# Altium integrated library Silicon Labs Clocks and Oscillators.IntLib: 678 symbols (part 9 of 45)
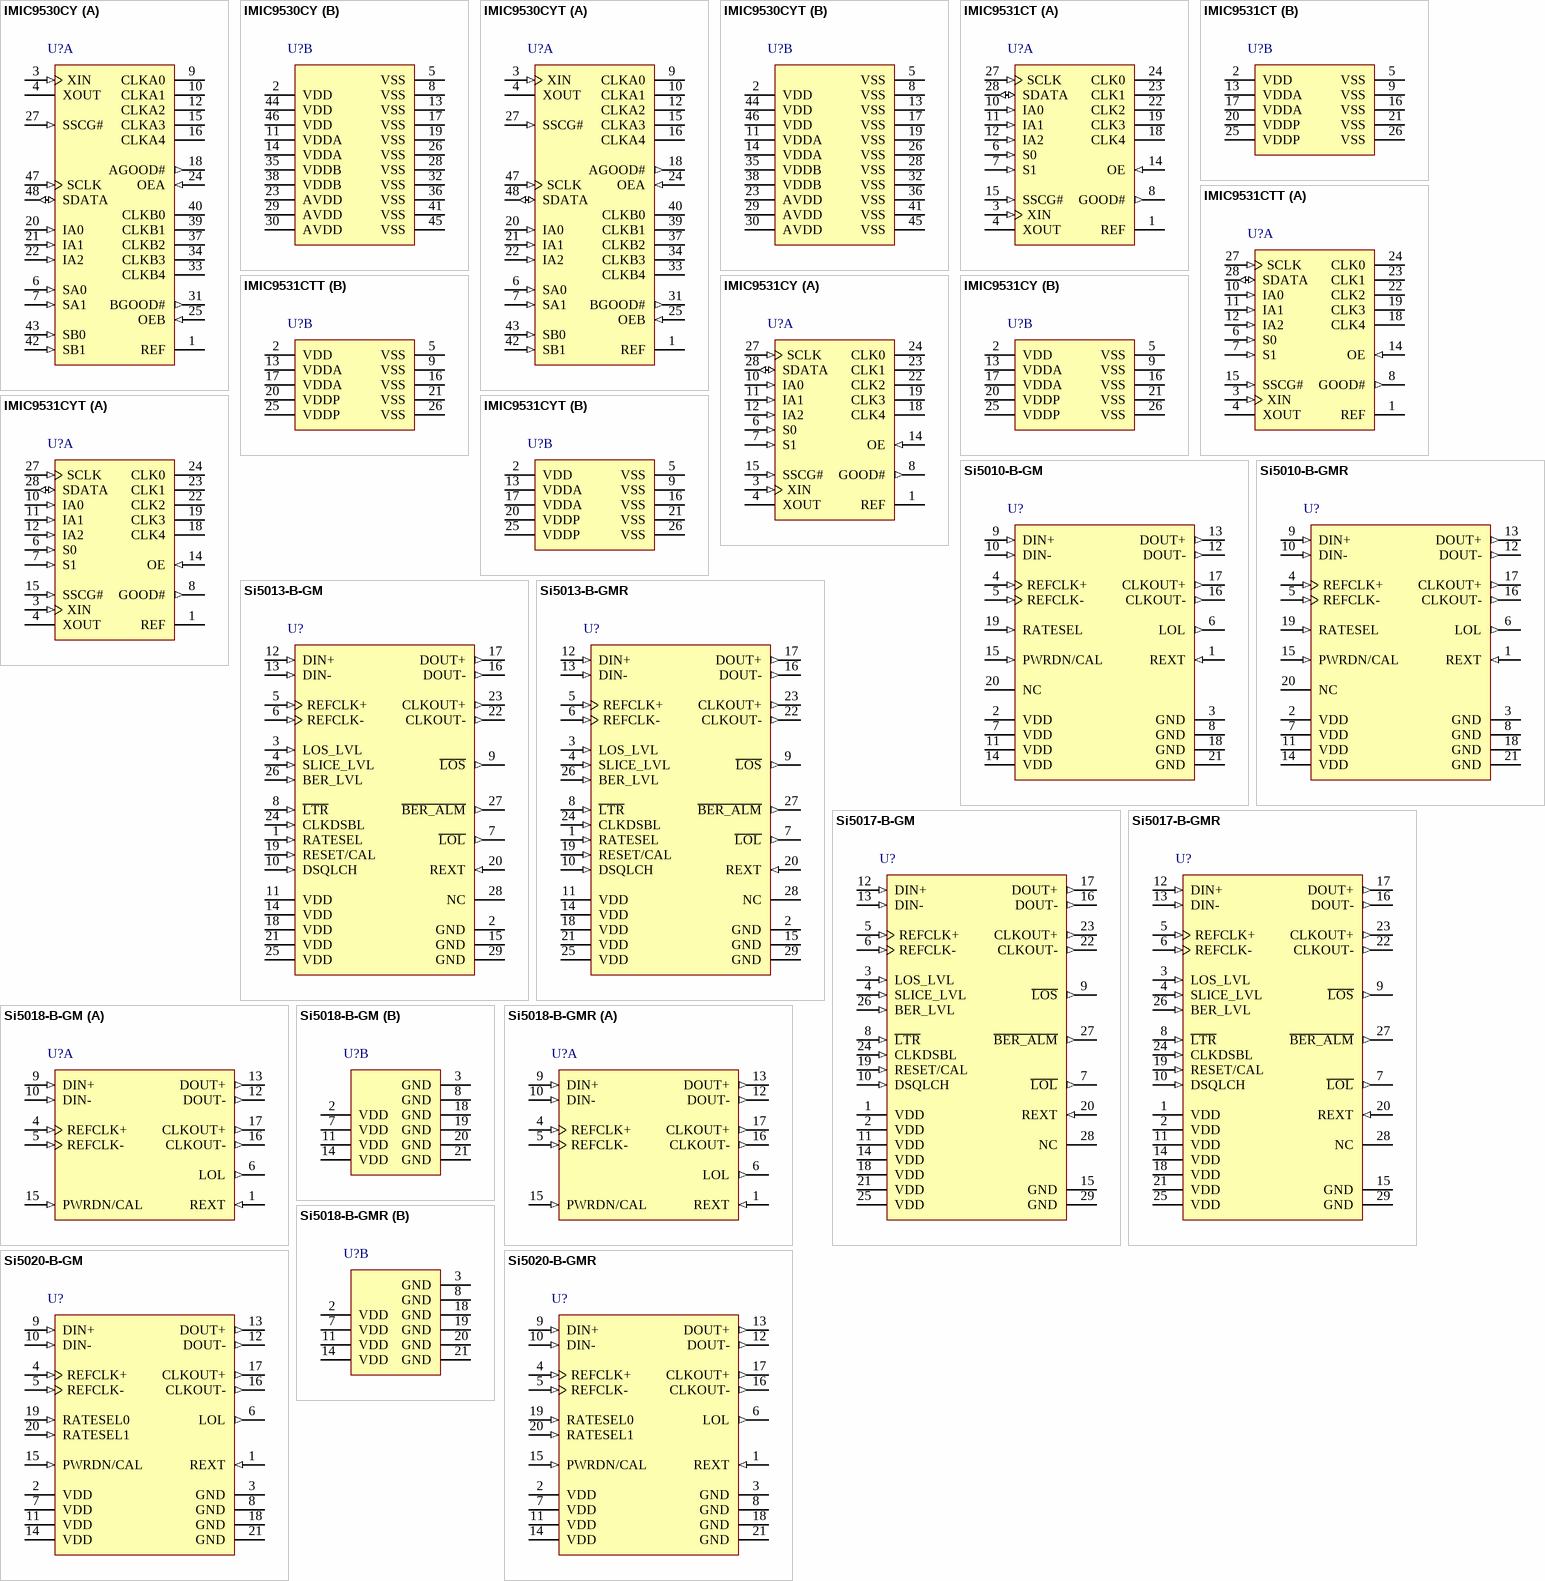
[diagram p52: symbols IMIC9530CY to Si5020-B-GMR]

## Si5010-B-GM
designator U?
OC-12 / 3, STM-4 / 1 SONET / SDH Clock and Data Recovery IC, 2.5 V, -40 to 85 degC, 20-pin QFN; Manufacturer: Silicon Labs; PartNumber: Si5010-B-GM; Data Rates: OC-3/12, (2.5 V); Sub-Family: CDR/PHYs; DatasheetVersion: Rev. 1.4; PackageReference: QFN-20; PackageDescription: 20-Pin Quad-Flat No-Leads Package, Body 4 x 4 mm, Pitch 0.5 mm; Supplier 1: Digi-Key; Supplier Part Number 1: 336-1743-5-ND; Supplier 2: Mouser; Supplier Part Number 2: 634-SI5010-B-GM; Mounting Technology: Surface Mount; Code_JEDEC: MO-220; ComponentLink1Description: Manufacturer URL; ComponentLink1URL: http://www.silabs.com/; ComponentLink2Description: Datasheet; ComponentLink2URL: http://www.silabs.com/Support Documents/TechnicalDocs/si5010.pdf; ComponentLink3Description: Package Specification; ComponentLink3URL: http://www.silabs.com/Support%20Documents/TechnicalDocs/si5010.pdf
footprint SLAB-QFN-20-2100x2100TP_A_N (QFN, 20-Leads, Body 4x4mm, Pitch 0.5mm, Thermal Pad 2.1X2.1mm, IPC Medium Density)
footprint SLAB-QFN-20-2100x2100TP_A_L (QFN, 20-Leads, Body 4x4mm, Pitch 0.5mm, Thermal Pad 2.1X2.1mm, IPC High Density)
footprint SLAB-QFN-20-2100x2100TP_A_M (QFN, 20-Leads, Body 4x4mm, Pitch 0.5mm, Thermal Pad 2.1X2.1mm, IPC Low Density)
pins: 1 REXT (in) "External Bias Resistor.", 2 VDD (power) "Supply Voltage.", 3 GND (power) "Supply Ground.", 4 REFCLK+ (in) "Differential Reference Clock.", 5 REFCLK- (in) "Differential Reference Clock.", 6 LOL (out) "Loss-of-Lock.", 7 VDD (power) "Supply Voltage.", 8 GND (power) "Supply Ground.", 9 DIN+ (in) "Differential Data Input", 10 DIN- (in) "Differential Data Input", 11 VDD (power) "Supply Voltage.", 12 DOUT- (out) "Differential Data Output.", 13 DOUT+ (out) "Differential Data Output.", 14 VDD (power) "Supply Voltage.", 15 PWRDN/CAL (in) "Powerdown.Calibration", 16 CLKOUT- (out) "Differential Clock Output.", 17 CLKOUT+ (out) "Differential Clock Output.", 18 GND (power) "Supply Ground.", 19 RATESEL (in) "Data Rate Select.", 20 NC "No Connect.", 21 GND (power) "Supply Ground."

## Si5010-B-GMR
designator U?
OC-12 / 3, STM-4 / 1 SONET / SDH Clock and Data Recovery IC, 2.5 V, -40 to 85 degC, 20-pin QFN, Tape and Reel; Manufacturer: Silicon Labs; PartNumber: Si5010-B-GMR; Data Rates: OC-3/12, (2.5 V); Sub-Family: CDR/PHYs; DatasheetVersion: Rev. 1.4; PackageReference: QFN-20; PackageDescription: 20-Pin Quad-Flat No-Leads Package, Body 4 x 4 mm, Pitch 0.5 mm; Supplier 1: Digi-Key; Supplier Part Number 1: SI5010-B-GMR-ND; Supplier 2: Mouser; Supplier Part Number 2: 634-SI5010-B-GMR; Packing: Tape and Reel; Mounting Technology: Surface Mount; Code_JEDEC: MO-220; ComponentLink1Description: Manufacturer URL; ComponentLink1URL: http://www.silabs.com/; ComponentLink2Description: Datasheet; ComponentLink2URL: http://www.silabs.com/Support Documents/TechnicalDocs/si5010.pdf; ComponentLink3Description: Package Specification; ComponentLink3URL: http://www.silabs.com/Support%20Documents/TechnicalDocs/si5010.pdf
footprint SLAB-QFN-20-2100x2100TP_A_N (QFN, 20-Leads, Body 4x4mm, Pitch 0.5mm, Thermal Pad 2.1X2.1mm, IPC Medium Density)
footprint SLAB-QFN-20-2100x2100TP_A_L (QFN, 20-Leads, Body 4x4mm, Pitch 0.5mm, Thermal Pad 2.1X2.1mm, IPC High Density)
footprint SLAB-QFN-20-2100x2100TP_A_M (QFN, 20-Leads, Body 4x4mm, Pitch 0.5mm, Thermal Pad 2.1X2.1mm, IPC Low Density)
pins: 1 REXT (in) "External Bias Resistor.", 2 VDD (power) "Supply Voltage.", 3 GND (power) "Supply Ground.", 4 REFCLK+ (in) "Differential Reference Clock.", 5 REFCLK- (in) "Differential Reference Clock.", 6 LOL (out) "Loss-of-Lock.", 7 VDD (power) "Supply Voltage.", 8 GND (power) "Supply Ground.", 9 DIN+ (in) "Differential Data Input", 10 DIN- (in) "Differential Data Input", 11 VDD (power) "Supply Voltage.", 12 DOUT- (out) "Differential Data Output.", 13 DOUT+ (out) "Differential Data Output.", 14 VDD (power) "Supply Voltage.", 15 PWRDN/CAL (in) "Powerdown.Calibration", 16 CLKOUT- (out) "Differential Clock Output.", 17 CLKOUT+ (out) "Differential Clock Output.", 18 GND (power) "Supply Ground.", 19 RATESEL (in) "Data Rate Select.", 20 NC "No Connect.", 21 GND (power) "Supply Ground."

## Si5013-B-GM
designator U?
OC-12 / 3, STM-4 / 1 SONET / SDH CDR IC with Limiting Amplifier, 3.3 V, -40 to 85 degC, 28-pin QFN; Manufacturer: Silicon Labs; PartNumber: Si5013-B-GM; Data Rates: OC-3/12, (3.3 V); Sub-Family: CDR/PHYs; DatasheetVersion: Rev. 1.6; PackageReference: QFN-28; PackageDescription: 28-Pin Quad-Flat No-Leads Package, Body 5 x 5 mm, Pitch 0.5 mm; Mounting Technology: Surface Mount; Code_JEDEC: MO-220; Code_IPC: J-STD-020C; ComponentLink1Description: Manufacturer URL; ComponentLink1URL: http://www.silabs.com/; ComponentLink2Description: Datasheet; ComponentLink2URL: http://www.silabs.com/Support Documents/TechnicalDocs/si5013.pdf; ComponentLink3Description: Package Specification; ComponentLink3URL: http://www.silabs.com/Support%20Documents/TechnicalDocs/si5013.pdf
footprint SLAB-QFN-28-3100x3100TP_N (QFN, 28-Leads, Body 5x5mm, Pitch 0.5mm, Thermal Pad 3.1x3.1mm, IPC Medium Density)
footprint SLAB-QFN-28-3100x3100TP_L (QFN, 28-Leads, Body 5x5mm, Pitch 0.5mm, Thermal Pad 3.1x3.1mm, IPC High Density)
footprint SLAB-QFN-28-3100x3100TP_M (QFN, 28-Leads, Body 5x5mm, Pitch 0.5mm, Thermal Pad 3.1x3.1mm, IPC Low Density)
pins: 1 RATESEL (in) "Data Rate Select.", 2 GND (power) "Supply Ground.", 3 LOS_LVL (in) "LOS Level Control.", 4 SLICE_LVL (in) "Slicing Level Control", 5 REFCLK+ (in) "Differential Reference Clock (Optional).", 6 REFCLK- (in) "Differential Reference Clock (Optional).", 7 ~{LOL} (out) "Loss-of-Lock.", 8 ~{LTR} (in) "Lock-to-Reference.", 9 ~{LOS} (out) "Loss-of-Signal.", 10 DSQLCH (in) "Data Squelch.", 11 VDD (power) "Supply Voltage.", 12 DIN+ (in) "Differential Data Input.", 13 DIN- (in) "Differential Data Input.", 14 VDD (power) "Supply Voltage.", 15 GND (power) "Production Test Input.", 16 DOUT- (out) "Differential Data Output.", 17 DOUT+ (out) "Differential Data Output.", 18 VDD (power) "Supply Voltage.", 19 RESET/CAL (in) "Reset/Calibrate.", 20 REXT (in) "External Bias Resistor.", 21 VDD (power) "Supply Voltage.", 22 CLKOUT- (out) "Differential Clock Output.", 23 CLKOUT+ (out) "Differential Clock Output.", 24 CLKDSBL (in) "Clock Disable.", 25 VDD (power) "Supply Voltage.", 26 BER_LVL (in) "Bit Error Rate Level Control.", 27 ~{BER_ALM} (out) "Bit Error Rate Alarm.", 28 NC "No Connect", 29 GND (power) "Supply Ground."

## Si5013-B-GMR
designator U?
OC-12 / 3, STM-4 / 1 SONET / SDH CDR IC with Limiting Amplifier, 3.3 V, -40 to 85 degC, 28-pin QFN, Tape and Reel; Manufacturer: Silicon Labs; PartNumber: Si5013-B-GMR; Data Rates: OC-3/12, (3.3 V); Sub-Family: CDR/PHYs; DatasheetVersion: Rev. 1.6; PackageReference: QFN-28; PackageDescription: 28-Pin Quad-Flat No-Leads Package, Body 5 x 5 mm, Pitch 0.5 mm; Packing: Tape and Reel; Mounting Technology: Surface Mount; Code_JEDEC: MO-220; Code_IPC: J-STD-020C; ComponentLink1Description: Manufacturer URL; ComponentLink1URL: http://www.silabs.com/; ComponentLink2Description: Datasheet; ComponentLink2URL: http://www.silabs.com/Support Documents/TechnicalDocs/si5013.pdf; ComponentLink3Description: Package Specification; ComponentLink3URL: http://www.silabs.com/Support%20Documents/TechnicalDocs/si5013.pdf
footprint SLAB-QFN-28-3100x3100TP_N (QFN, 28-Leads, Body 5x5mm, Pitch 0.5mm, Thermal Pad 3.1x3.1mm, IPC Medium Density)
footprint SLAB-QFN-28-3100x3100TP_L (QFN, 28-Leads, Body 5x5mm, Pitch 0.5mm, Thermal Pad 3.1x3.1mm, IPC High Density)
footprint SLAB-QFN-28-3100x3100TP_M (QFN, 28-Leads, Body 5x5mm, Pitch 0.5mm, Thermal Pad 3.1x3.1mm, IPC Low Density)
pins: 1 RATESEL (in) "Data Rate Select.", 2 GND (power) "Supply Ground.", 3 LOS_LVL (in) "LOS Level Control.", 4 SLICE_LVL (in) "Slicing Level Control", 5 REFCLK+ (in) "Differential Reference Clock (Optional).", 6 REFCLK- (in) "Differential Reference Clock (Optional).", 7 ~{LOL} (out) "Loss-of-Lock.", 8 ~{LTR} (in) "Lock-to-Reference.", 9 ~{LOS} (out) "Loss-of-Signal.", 10 DSQLCH (in) "Data Squelch.", 11 VDD (power) "Supply Voltage.", 12 DIN+ (in) "Differential Data Input.", 13 DIN- (in) "Differential Data Input.", 14 VDD (power) "Supply Voltage.", 15 GND (power) "Production Test Input.", 16 DOUT- (out) "Differential Data Output.", 17 DOUT+ (out) "Differential Data Output.", 18 VDD (power) "Supply Voltage.", 19 RESET/CAL (in) "Reset/Calibrate.", 20 REXT (in) "External Bias Resistor.", 21 VDD (power) "Supply Voltage.", 22 CLKOUT- (out) "Differential Clock Output.", 23 CLKOUT+ (out) "Differential Clock Output.", 24 CLKDSBL (in) "Clock Disable.", 25 VDD (power) "Supply Voltage.", 26 BER_LVL (in) "Bit Error Rate Level Control.", 27 ~{BER_ALM} (out) "Bit Error Rate Alarm.", 28 NC "No Connect", 29 GND (power) "Supply Ground."

## Si5017-B-GM
designator U?
OC-48 / STM-16 SONET / SDH CDR IC with Limiting Amplifier, 3.3 V, -40 to 85 degC, 28-pin QFN; Manufacturer: Silicon Labs; PartNumber: Si5017-B-GM; Data Rates: OC-48, 2.7 Gbps FEC (3.3 V); Sub-Family: CDR/PHYs; DatasheetVersion: Rev. 1.5; PackageReference: QFN-28; PackageDescription: 28-Pin Quad-Flat No-Leads Package, Body 5 x 5 mm, Pitch 0.5 mm; Mounting Technology: Surface Mount; Code_JEDEC: MO-220; Code_IPC: J-STD-020C; ComponentLink1Description: Manufacturer URL; ComponentLink1URL: http://www.silabs.com/; ComponentLink2Description: Datasheet; ComponentLink2URL: http://www.silabs.com/Support Documents/TechnicalDocs/si5017.pdf; ComponentLink3Description: Package Specification; ComponentLink3URL: http://www.silabs.com/Support%20Documents/TechnicalDocs/si5013.pdf
footprint SLAB-QFN-28-3100x3100TP_N (QFN, 28-Leads, Body 5x5mm, Pitch 0.5mm, Thermal Pad 3.1x3.1mm, IPC Medium Density)
footprint SLAB-QFN-28-3100x3100TP_L (QFN, 28-Leads, Body 5x5mm, Pitch 0.5mm, Thermal Pad 3.1x3.1mm, IPC High Density)
footprint SLAB-QFN-28-3100x3100TP_M (QFN, 28-Leads, Body 5x5mm, Pitch 0.5mm, Thermal Pad 3.1x3.1mm, IPC Low Density)
pins: 1 VDD (power) "Supply Voltage.", 2 VDD (power) "Supply Voltage.", 3 LOS_LVL (in) "LOS Level Control.", 4 SLICE_LVL (in) "Slicing Level Control.", 5 REFCLK+ (in) "Differential Reference Clock (Optional).", 6 REFCLK- (in) "Differential Reference Clock (Optional).", 7 ~{LOL} (out) "Loss-of-Lock.", 8 ~{LTR} (in) "Lock-to-Reference.", 9 ~{LOS} (out) "Loss-of-Signal.", 10 DSQLCH (in) "Data Squelch.", 11 VDD (power) "Supply Voltage.", 12 DIN+ (in) "Differential Data Input.", 13 DIN- (in) "Differential Data Input.", 14 VDD (power) "Supply Voltage.", 15 GND (power) "Production Test Input.", 16 DOUT- (out) "Differential Data Output.", 17 DOUT+ (out) "Differential Data Output.", 18 VDD (power) "Supply Voltage.", 19 RESET/CAL (in) "Reset/Calibrate.", 20 REXT (in) "External Bias Resistor.", 21 VDD (power) "Supply Voltage.", 22 CLKOUT- (out) "Differential Clock Output.", 23 CLKOUT+ (out) "Differential Clock Output.", 24 CLKDSBL (in) "Clock Disable.", 25 VDD (power) "Supply Voltage.", 26 BER_LVL (in) "Bit Error Rate Level Control.", 27 ~{BER_ALM} (out) "Bit Error Rate Alarm.", 28 NC "No Connect.", 29 GND (power) "Supply Ground"

## Si5017-B-GMR
designator U?
OC-48 / STM-16 SONET / SDH CDR IC with Limiting Amplifier, 3.3 V, -40 to 85 degC, 28-pin QFN, Tape and Reel; Manufacturer: Silicon Labs; PartNumber: Si5017-B-GMR; Data Rates: OC-48, 2.7 Gbps FEC (3.3 V); Sub-Family: CDR/PHYs; DatasheetVersion: Rev. 1.5; PackageReference: QFN-28; PackageDescription: 28-Pin Quad-Flat No-Leads Package, Body 5 x 5 mm, Pitch 0.5 mm; Packing: Tape and Reel; Mounting Technology: Surface Mount; Code_JEDEC: MO-220; Code_IPC: J-STD-020C; ComponentLink1Description: Manufacturer URL; ComponentLink1URL: http://www.silabs.com/; ComponentLink2Description: Datasheet; ComponentLink2URL: http://www.silabs.com/Support Documents/TechnicalDocs/si5017.pdf; ComponentLink3Description: Package Specification; ComponentLink3URL: http://www.silabs.com/Support%20Documents/TechnicalDocs/si5013.pdf
footprint SLAB-QFN-28-3100x3100TP_N (QFN, 28-Leads, Body 5x5mm, Pitch 0.5mm, Thermal Pad 3.1x3.1mm, IPC Medium Density)
footprint SLAB-QFN-28-3100x3100TP_L (QFN, 28-Leads, Body 5x5mm, Pitch 0.5mm, Thermal Pad 3.1x3.1mm, IPC High Density)
footprint SLAB-QFN-28-3100x3100TP_M (QFN, 28-Leads, Body 5x5mm, Pitch 0.5mm, Thermal Pad 3.1x3.1mm, IPC Low Density)
pins: 1 VDD (power) "Supply Voltage.", 2 VDD (power) "Supply Voltage.", 3 LOS_LVL (in) "LOS Level Control.", 4 SLICE_LVL (in) "Slicing Level Control.", 5 REFCLK+ (in) "Differential Reference Clock (Optional).", 6 REFCLK- (in) "Differential Reference Clock (Optional).", 7 ~{LOL} (out) "Loss-of-Lock.", 8 ~{LTR} (in) "Lock-to-Reference.", 9 ~{LOS} (out) "Loss-of-Signal.", 10 DSQLCH (in) "Data Squelch.", 11 VDD (power) "Supply Voltage.", 12 DIN+ (in) "Differential Data Input.", 13 DIN- (in) "Differential Data Input.", 14 VDD (power) "Supply Voltage.", 15 GND (power) "Production Test Input.", 16 DOUT- (out) "Differential Data Output.", 17 DOUT+ (out) "Differential Data Output.", 18 VDD (power) "Supply Voltage.", 19 RESET/CAL (in) "Reset/Calibrate.", 20 REXT (in) "External Bias Resistor.", 21 VDD (power) "Supply Voltage.", 22 CLKOUT- (out) "Differential Clock Output.", 23 CLKOUT+ (out) "Differential Clock Output.", 24 CLKDSBL (in) "Clock Disable.", 25 VDD (power) "Supply Voltage.", 26 BER_LVL (in) "Bit Error Rate Level Control.", 27 ~{BER_ALM} (out) "Bit Error Rate Alarm.", 28 NC "No Connect.", 29 GND (power) "Supply Ground"

## Si5018-B-GM
designator U?
SiPHY(TM) OC-48 / STM-16 Clock and Data Recovery IC with FEC, 2.5 V, -40 to 85 degC, 20-pin QFN; Manufacturer: Silicon Labs; PartNumber: Si5018-B-GM; Data Rates: OC-48, 2.7 Gbps FEC (2.5 V); Sub-Family: CDR/PHYs; DatasheetVersion: Rev. 1.3; PackageReference: QFN-20; PackageDescription: 20-Pin Quad-Flat No-Leads Package, Body 4 x 4 mm, Pitch 0.5 mm; Supplier 1: Digi-Key; Supplier Part Number 1: SI5018-B-GM-ND; Supplier 2: Mouser; Supplier Part Number 2: 634-SI5018-B-GM; Mounting Technology: Surface Mount; Code_JEDEC: MO-220; ComponentLink1Description: Manufacturer URL; ComponentLink1URL: http://www.silabs.com/; ComponentLink2Description: Datasheet; ComponentLink2URL: http://www.silabs.com/Support Documents/TechnicalDocs/si5018.pdf; ComponentLink3Description: Package Specification; ComponentLink3URL: http://www.silabs.com/Support%20Documents/TechnicalDocs/si5010.pdf
footprint SLAB-QFN-20-2100x2100TP_A_N (QFN, 20-Leads, Body 4x4mm, Pitch 0.5mm, Thermal Pad 2.1X2.1mm, IPC Medium Density)
footprint SLAB-QFN-20-2100x2100TP_A_L (QFN, 20-Leads, Body 4x4mm, Pitch 0.5mm, Thermal Pad 2.1X2.1mm, IPC High Density)
footprint SLAB-QFN-20-2100x2100TP_A_M (QFN, 20-Leads, Body 4x4mm, Pitch 0.5mm, Thermal Pad 2.1X2.1mm, IPC Low Density)
part A pins: 1 REXT (in) "External Bias Resistor.", 4 REFCLK+ (in) "Differential Reference Clock.", 5 REFCLK- (in) "Differential Reference Clock.", 6 LOL (out) "Loss-of-Lock.", 9 DIN+ (in) "Differential Data Input", 10 DIN- (in) "Differential Data Input", 12 DOUT- (out) "Differential Data Output.", 13 DOUT+ (out) "Differential Data Output.", 15 PWRDN/CAL (in) "Powerdown.", 16 CLKOUT- (out) "Differential Clock Output.", 17 CLKOUT+ (out) "Differential Clock Output."
part B pins: 2 VDD (power) "Supply Voltage.", 3 GND (power) "Supply Ground.", 7 VDD (power) "Supply Voltage.", 8 GND (power) "Supply Ground.", 11 VDD (power) "Supply Voltage.", 14 VDD (power) "Supply Voltage.", 18 GND (power) "Supply Ground.", 19 GND (power) "Supply Ground.", 20 GND (power) "Supply Ground.", 21 GND (power) "Supply Ground."

## Si5018-B-GMR
designator U?
SiPHY(TM) OC-48 / STM-16 Clock and Data Recovery IC with FEC, 2.5 V, -40 to 85 degC, 20-pin QFN, Tape and Reel; Manufacturer: Silicon Labs; PartNumber: Si5018-B-GMR; Data Rates: OC-48, 2.7 Gbps FEC (2.5 V); Sub-Family: CDR/PHYs; DatasheetVersion: Rev. 1.3; PackageReference: QFN-20; PackageDescription: 20-Pin Quad-Flat No-Leads Package, Body 4 x 4 mm, Pitch 0.5 mm; Supplier 1: Digi-Key; Supplier Part Number 1: SI5018-B-GMR-ND; Supplier 2: Mouser; Supplier Part Number 2: 634-SI5018-B-GMR; Packing: Tape and Reel; Mounting Technology: Surface Mount; Code_JEDEC: MO-220; ComponentLink1Description: Manufacturer URL; ComponentLink1URL: http://www.silabs.com/; ComponentLink2Description: Datasheet; ComponentLink2URL: http://www.silabs.com/Support Documents/TechnicalDocs/si5018.pdf; ComponentLink3Description: Package Specification; ComponentLink3URL: http://www.silabs.com/Support%20Documents/TechnicalDocs/si5010.pdf
footprint SLAB-QFN-20-2100x2100TP_A_N (QFN, 20-Leads, Body 4x4mm, Pitch 0.5mm, Thermal Pad 2.1X2.1mm, IPC Medium Density)
footprint SLAB-QFN-20-2100x2100TP_A_L (QFN, 20-Leads, Body 4x4mm, Pitch 0.5mm, Thermal Pad 2.1X2.1mm, IPC High Density)
footprint SLAB-QFN-20-2100x2100TP_A_M (QFN, 20-Leads, Body 4x4mm, Pitch 0.5mm, Thermal Pad 2.1X2.1mm, IPC Low Density)
part A pins: 1 REXT (in) "External Bias Resistor.", 4 REFCLK+ (in) "Differential Reference Clock.", 5 REFCLK- (in) "Differential Reference Clock.", 6 LOL (out) "Loss-of-Lock.", 9 DIN+ (in) "Differential Data Input", 10 DIN- (in) "Differential Data Input", 12 DOUT- (out) "Differential Data Output.", 13 DOUT+ (out) "Differential Data Output.", 15 PWRDN/CAL (in) "Powerdown.", 16 CLKOUT- (out) "Differential Clock Output.", 17 CLKOUT+ (out) "Differential Clock Output."
part B pins: 2 VDD (power) "Supply Voltage.", 3 GND (power) "Supply Ground.", 7 VDD (power) "Supply Voltage.", 8 GND (power) "Supply Ground.", 11 VDD (power) "Supply Voltage.", 14 VDD (power) "Supply Voltage.", 18 GND (power) "Supply Ground.", 19 GND (power) "Supply Ground.", 20 GND (power) "Supply Ground.", 21 GND (power) "Supply Ground."

## Si5020-B-GM
designator U?
SiPHY(TM) Multi-Rate SONET / SDH Clock and Data Recovery IC, 2.5 V, -40 to 85 degC, 20-pin QFN; Manufacturer: Silicon Labs; PartNumber: Si5020-B-GM; Data Rates: OC-3/12/48, GbE, 2.7 Gbps FEC (2.5 V); Sub-Family: CDR/PHYs; DatasheetVersion: Rev. 1.5; PackageReference: QFN-20; PackageDescription: 20-Pin Quad-Flat No-Leads Package, Body 4 x 4 mm, Pitch 0.5 mm; Supplier 1: Digi-Key; Supplier Part Number 1: SI5020-B-GM-ND; Supplier 2: Mouser; Supplier Part Number 2: 634-SI5020-B-GM; Mounting Technology: Surface Mount; Code_JEDEC: MO-220; ComponentLink1Description: Manufacturer URL; ComponentLink1URL: http://www.silabs.com/; ComponentLink2Description: Datasheet; ComponentLink2URL: http://www.silabs.com/Support Documents/TechnicalDocs/si5020.pdf; ComponentLink3Description: Package Specification; ComponentLink3URL: http://www.silabs.com/Support%20Documents/TechnicalDocs/si5010.pdf
footprint SLAB-QFN-20-2100x2100TP_A_N (QFN, 20-Leads, Body 4x4mm, Pitch 0.5mm, Thermal Pad 2.1X2.1mm, IPC Medium Density)
footprint SLAB-QFN-20-2100x2100TP_A_L (QFN, 20-Leads, Body 4x4mm, Pitch 0.5mm, Thermal Pad 2.1X2.1mm, IPC High Density)
footprint SLAB-QFN-20-2100x2100TP_A_M (QFN, 20-Leads, Body 4x4mm, Pitch 0.5mm, Thermal Pad 2.1X2.1mm, IPC Low Density)
pins: 1 REXT (in) "External Bias Resistor.", 2 VDD (power) "Supply Voltage.", 3 GND (power) "Supply Ground.", 4 REFCLK+ (in) "Differential Reference Clock.", 5 REFCLK- (in) "Differential Reference Clock.", 6 LOL (out) "Loss-of-Lock.", 7 VDD (power) "Supply Voltage.", 8 GND (power) "Supply Ground.", 9 DIN+ (in) "Differential Data Input", 10 DIN- (in) "Differential Data Input", 11 VDD (power) "Supply Voltage.", 12 DOUT- (out) "Differential Data Output.", 13 DOUT+ (out) "Differential Data Output.", 14 VDD (power) "Supply Voltage.", 15 PWRDN/CAL (in) "Powerdown.", 16 CLKOUT- (out) "Differential Clock Output.", 17 CLKOUT+ (out) "Differential Clock Output.", 18 GND (power) "Supply Ground.", 19 RATESEL0 (in) "Data Rate Select.", 20 RATESEL1 (in) "Data Rate Select.", 21 GND (power) "Supply Ground."

## Si5020-B-GMR
designator U?
SiPHY(TM) Multi-Rate SONET / SDH Clock and Data Recovery IC, 2.5 V, -40 to 85 degC, 20-pin QFN, Tape and Reel; Manufacturer: Silicon Labs; PartNumber: Si5020-B-GMR; Data Rates: OC-3/12/48, GbE, 2.7 Gbps FEC (2.5 V); Sub-Family: CDR/PHYs; DatasheetVersion: Rev. 1.5; PackageReference: QFN-20; PackageDescription: 20-Pin Quad-Flat No-Leads Package, Body 4 x 4 mm, Pitch 0.5 mm; Supplier 1: Digi-Key; Supplier Part Number 1: SI5020-B-GMR-ND; Supplier 2: Mouser; Supplier Part Number 2: 634-SI5020-B-GMR; Packing: Tape and Reel; Mounting Technology: Surface Mount; Code_JEDEC: MO-220; ComponentLink1Description: Manufacturer URL; ComponentLink1URL: http://www.silabs.com/; ComponentLink2Description: Datasheet; ComponentLink2URL: http://www.silabs.com/Support Documents/TechnicalDocs/si5020.pdf; ComponentLink3Description: Package Specification; ComponentLink3URL: http://www.silabs.com/Support%20Documents/TechnicalDocs/si5010.pdf
footprint SLAB-QFN-20-2100x2100TP_A_N (QFN, 20-Leads, Body 4x4mm, Pitch 0.5mm, Thermal Pad 2.1X2.1mm, IPC Medium Density)
footprint SLAB-QFN-20-2100x2100TP_A_L (QFN, 20-Leads, Body 4x4mm, Pitch 0.5mm, Thermal Pad 2.1X2.1mm, IPC High Density)
footprint SLAB-QFN-20-2100x2100TP_A_M (QFN, 20-Leads, Body 4x4mm, Pitch 0.5mm, Thermal Pad 2.1X2.1mm, IPC Low Density)
pins: 1 REXT (in) "External Bias Resistor.", 2 VDD (power) "Supply Voltage.", 3 GND (power) "Supply Ground.", 4 REFCLK+ (in) "Differential Reference Clock.", 5 REFCLK- (in) "Differential Reference Clock.", 6 LOL (out) "Loss-of-Lock.", 7 VDD (power) "Supply Voltage.", 8 GND (power) "Supply Ground.", 9 DIN+ (in) "Differential Data Input", 10 DIN- (in) "Differential Data Input", 11 VDD (power) "Supply Voltage.", 12 DOUT- (out) "Differential Data Output.", 13 DOUT+ (out) "Differential Data Output.", 14 VDD (power) "Supply Voltage.", 15 PWRDN/CAL (in) "Powerdown.", 16 CLKOUT- (out) "Differential Clock Output.", 17 CLKOUT+ (out) "Differential Clock Output.", 18 GND (power) "Supply Ground.", 19 RATESEL0 (in) "Data Rate Select.", 20 RATESEL1 (in) "Data Rate Select.", 21 GND (power) "Supply Ground."

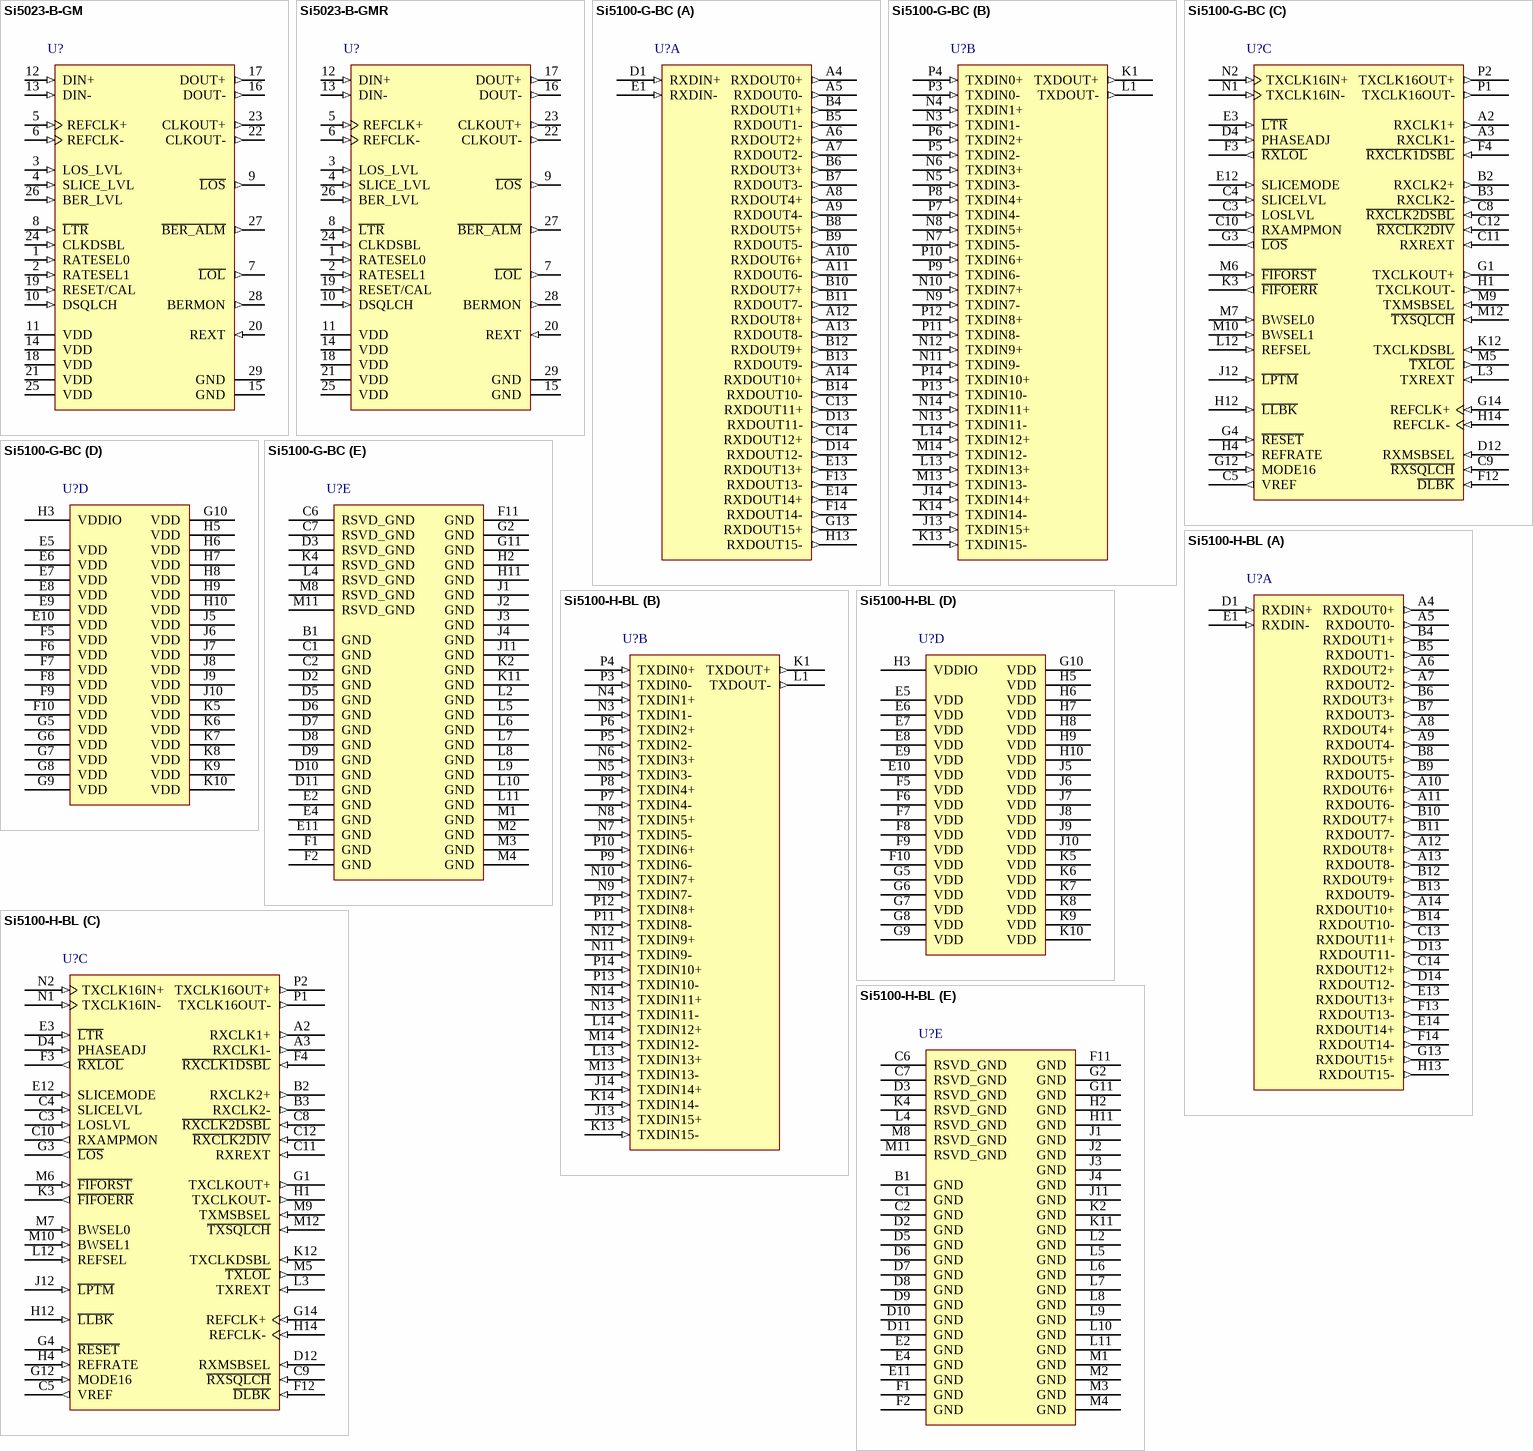
[diagram p9: symbols Si5023-B-GM to Si5100-H-BL]

## Si5023-B-GM
designator U?
Multi-Rate SONET / SDH CDR IC with Limiting Amplifier, 3.3 V, -40 to 85 degC, 28-pin QFN; Manufacturer: Silicon Labs; PartNumber: Si5023-B-GM; Data Rates: OC-3/12/48, GbE, 2.7 Gbps FEC (3.3 V); Sub-Family: CDR/PHYs; DatasheetVersion: Rev. 1.3; PackageReference: QFN-28; PackageDescription: 28-Pin Quad-Flat No-Leads Package, Body 5 x 5 mm, Pitch 0.5 mm; Mounting Technology: Surface Mount; Code_JEDEC: MO-220; Code_IPC: J-STD-020C; ComponentLink1Description: Manufacturer URL; ComponentLink1URL: http://www.silabs.com/; ComponentLink2Description: Datasheet; ComponentLink2URL: http://www.silabs.com/Support Documents/TechnicalDocs/si5023.pdf; ComponentLink3Description: Package Specification; ComponentLink3URL: http://www.silabs.com/Support%20Documents/TechnicalDocs/si5013.pdf
footprint SLAB-QFN-28-3100x3100TP_N (QFN, 28-Leads, Body 5x5mm, Pitch 0.5mm, Thermal Pad 3.1x3.1mm, IPC Medium Density)
footprint SLAB-QFN-28-3100x3100TP_L (QFN, 28-Leads, Body 5x5mm, Pitch 0.5mm, Thermal Pad 3.1x3.1mm, IPC High Density)
footprint SLAB-QFN-28-3100x3100TP_M (QFN, 28-Leads, Body 5x5mm, Pitch 0.5mm, Thermal Pad 3.1x3.1mm, IPC Low Density)
pins: 1 RATESEL0 (in) "Data Rate Select.", 2 RATESEL1 (in) "Data Rate Select.", 3 LOS_LVL (in) "LOS Level Control.", 4 SLICE_LVL (in) "Slicing Level Control.", 5 REFCLK+ (in) "Differential Reference Clock (Optional).", 6 REFCLK- (in) "Differential Reference Clock (Optional).", 7 ~{LOL} (out) "Loss-of-Lock.", 8 ~{LTR} (in) "Lock-to-Reference.", 9 ~{LOS} (out) "Loss-of-Signal.", 10 DSQLCH (in) "Data Squelch.", 11 VDD (power) "Supply Voltage.", 12 DIN+ (in) "Differential Data Input.", 13 DIN- (in) "Differential Data Input.", 14 VDD (power) "Supply Voltage.", 15 GND (power) "Production Test Input.", 16 DOUT- (out) "Differential Data Output.", 17 DOUT+ (out) "Differential Data Output.", 18 VDD (power) "Supply Voltage.", 19 RESET/CAL (in) "Reset/Calibrate.", 20 REXT (in) "External Bias Resistor.", 21 VDD (power) "Supply Voltage.", 22 CLKOUT- (out) "Differential Clock Output.", 23 CLKOUT+ (out) "Differential Clock Output.", 24 CLKDSBL (in) "Clock Disable.", 25 VDD (power) "Supply Voltage.", 26 BER_LVL (in) "Bit Error Rate Level Control.", 27 ~{BER_ALM} (out) "Bit Error Rate Alarm.", 28 BERMON (out) "Bit Error Rate Monitor.", 29 GND (power) "Supply Ground."

## Si5023-B-GMR
designator U?
Multi-Rate SONET / SDH CDR IC with Limiting Amplifier, 3.3 V, -40 to 85 degC, 28-pin QFN, Tape and Reel; Manufacturer: Silicon Labs; PartNumber: Si5023-B-GMR; Data Rates: OC-3/12/48, GbE, 2.7 Gbps FEC (3.3 V); Sub-Family: CDR/PHYs; DatasheetVersion: Rev. 1.3; PackageReference: QFN-28; PackageDescription: 28-Pin Quad-Flat No-Leads Package, Body 5 x 5 mm, Pitch 0.5 mm; Packing: Tape and Reel; Mounting Technology: Surface Mount; Code_JEDEC: MO-220; Code_IPC: J-STD-020C; ComponentLink1Description: Manufacturer URL; ComponentLink1URL: http://www.silabs.com/; ComponentLink2Description: Datasheet; ComponentLink2URL: http://www.silabs.com/Support Documents/TechnicalDocs/si5023.pdf; ComponentLink3Description: Package Specification; ComponentLink3URL: http://www.silabs.com/Support%20Documents/TechnicalDocs/si5013.pdf
footprint SLAB-QFN-28-3100x3100TP_N (QFN, 28-Leads, Body 5x5mm, Pitch 0.5mm, Thermal Pad 3.1x3.1mm, IPC Medium Density)
footprint SLAB-QFN-28-3100x3100TP_L (QFN, 28-Leads, Body 5x5mm, Pitch 0.5mm, Thermal Pad 3.1x3.1mm, IPC High Density)
footprint SLAB-QFN-28-3100x3100TP_M (QFN, 28-Leads, Body 5x5mm, Pitch 0.5mm, Thermal Pad 3.1x3.1mm, IPC Low Density)
pins: 1 RATESEL0 (in) "Data Rate Select.", 2 RATESEL1 (in) "Data Rate Select.", 3 LOS_LVL (in) "LOS Level Control.", 4 SLICE_LVL (in) "Slicing Level Control.", 5 REFCLK+ (in) "Differential Reference Clock (Optional).", 6 REFCLK- (in) "Differential Reference Clock (Optional).", 7 ~{LOL} (out) "Loss-of-Lock.", 8 ~{LTR} (in) "Lock-to-Reference.", 9 ~{LOS} (out) "Loss-of-Signal.", 10 DSQLCH (in) "Data Squelch.", 11 VDD (power) "Supply Voltage.", 12 DIN+ (in) "Differential Data Input.", 13 DIN- (in) "Differential Data Input.", 14 VDD (power) "Supply Voltage.", 15 GND (power) "Production Test Input.", 16 DOUT- (out) "Differential Data Output.", 17 DOUT+ (out) "Differential Data Output.", 18 VDD (power) "Supply Voltage.", 19 RESET/CAL (in) "Reset/Calibrate.", 20 REXT (in) "External Bias Resistor.", 21 VDD (power) "Supply Voltage.", 22 CLKOUT- (out) "Differential Clock Output.", 23 CLKOUT+ (out) "Differential Clock Output.", 24 CLKDSBL (in) "Clock Disable.", 25 VDD (power) "Supply Voltage.", 26 BER_LVL (in) "Bit Error Rate Level Control.", 27 ~{BER_ALM} (out) "Bit Error Rate Alarm.", 28 BERMON (out) "Bit Error Rate Monitor.", 29 GND (power) "Supply Ground."

## Si5100-G-BC
designator U?
SiPHY(R) OC-48 / STM-16 SONET / SDH Transceiver, 1.8 V, -20 to 85 degC, 195-pin BGA; Manufacturer: Silicon Labs; PartNumber: Si5100-G-BC; Sub-Family: CDR/PHYs; DatasheetVersion: Rev. 1.5; PackageReference: CBGA-195; PackageDescription: 195-Ball Ceramic Ball Grid Array, Body 15 x 15 mm, Pitch 1 mm; Supplier 1: Digi-Key; Supplier Part Number 1: 336-1308-ND; Supplier 2: Mouser; Supplier Part Number 2: 634-SI5100-G-BC; Mounting Technology: Surface Mount; Code_JEDEC: MO-192; Code_IPC: J-STD-020C; ComponentLink1Description: Manufacturer URL; ComponentLink1URL: http://www.silabs.com/; ComponentLink2Description: Datasheet; ComponentLink2URL: http://www.silabs.com/Support Documents/TechnicalDocs/si5100.pdf; ComponentLink3Description: Package Specification; ComponentLink3URL: http://www.silabs.com/Support%20Documents/TechnicalDocs/si5100.pdf
footprint SLAB-CBGA-195 (BGA, 195-Balls, Body 15x15mm, Pitch 1mm)
part A pins: A4 RXDOUT0+ (out) "Differential Parallel Receive Data Output.", A5 RXDOUT0- (out) "Differential Parallel Receive Data Output.", A6 RXDOUT2+ (out) "Differential Parallel Receive Data Output.", A7 RXDOUT2- (out) "Differential Parallel Receive Data Output.", A8 RXDOUT4+ (out) "Differential Parallel Receive Data Output.", A9 RXDOUT4- (out) "Differential Parallel Receive Data Output.", A10 RXDOUT6+ (out) "Differential Parallel Receive Data Output.", A11 RXDOUT6- (out) "Differential Parallel Receive Data Output.", A12 RXDOUT8+ (out) "Differential Parallel Receive Data Output.", A13 RXDOUT8- (out) "Differential Parallel Receive Data Output.", A14 RXDOUT10+ (out) "Differential Parallel Receive Data Output.", B4 RXDOUT1+ (out) "Differential Parallel Receive Data Output.", B5 RXDOUT1- (out) "Differential Parallel Receive Data Output.", B6 RXDOUT3+ (out) "Differential Parallel Receive Data Output.", B7 RXDOUT3- (out) "Differential Parallel Receive Data Output.", B8 RXDOUT5+ (out) "Differential Parallel Receive Data Output.", B9 RXDOUT5- (out) "Differential Parallel Receive Data Output.", B10 RXDOUT7+ (out) "Differential Parallel Receive Data Output.", B11 RXDOUT7- (out) "Differential Parallel Receive Data Output.", B12 RXDOUT9+ (out) "Differential Parallel Receive Data Output.", B13 RXDOUT9- (out) "Differential Parallel Receive Data Output.", B14 RXDOUT10- (out) "Differential Parallel Receive Data Output.", C13 RXDOUT11+ (out) "Differential Parallel Receive Data Output.", C14 RXDOUT12+ (out) "Differential Parallel Receive Data Output.", D1 RXDIN+ (in) "Differential Receive Data Input.", D13 RXDOUT11- (out) "Differential Parallel Receive Data Output.", D14 RXDOUT12- (out) "Differential Parallel Receive Data Output.", E1 RXDIN- (in) "Differential Receive Data Input.", E13 RXDOUT13+ (out) "Differential Parallel Receive Data Output.", E14 RXDOUT14+ (out) "Differential Parallel Receive Data Output.", F13 RXDOUT13- (out) "Differential Parallel Receive Data Output.", F14 RXDOUT14- (out) "Differential Parallel Receive Data Output.", G13 RXDOUT15+ (out) "Differential Parallel Receive Data Output.", H13 RXDOUT15- (out) "Differential Parallel Receive Data Output."
part B pins: J13 TXDIN15+ (in) "Differential Parallel Transmit Data Input.", J14 TXDIN14+ (in) "Differential Parallel Transmit Data Input.", K1 TXDOUT+ (out) "Differential High-Speed Transmit Data Output.", K13 TXDIN15- (in) "Differential Parallel Transmit Data Input.", K14 TXDIN14- (in) "Differential Parallel Transmit Data Input.", L1 TXDOUT- (out) "Differential High-Speed Transmit Data Output.", L13 TXDIN13+ (in) "Differential Parallel Transmit Data Input.", L14 TXDIN12+ (in) "Differential Parallel Transmit Data Input.", M13 TXDIN13- (in) "Differential Parallel Transmit Data Input.", M14 TXDIN12- (in) "Differential Parallel Transmit Data Input.", N3 TXDIN1- (in) "Differential Parallel Transmit Data Input.", N4 TXDIN1+ (in) "Differential Parallel Transmit Data Input.", N5 TXDIN3- (in) "Differential Parallel Transmit Data Input.", N6 TXDIN3+ (in) "Differential Parallel Transmit Data Input.", N7 TXDIN5- (in) "Differential Parallel Transmit Data Input.", N8 TXDIN5+ (in) "Differential Parallel Transmit Data Input.", N9 TXDIN7- (in) "Differential Parallel Transmit Data Input.", N10 TXDIN7+ (in) "Differential Parallel Transmit Data Input.", N11 TXDIN9- (in) "Differential Parallel Transmit Data Input.", N12 TXDIN9+ (in) "Differential Parallel Transmit Data Input.", N13 TXDIN11- (in) "Differential Parallel Transmit Data Input.", N14 TXDIN11+ (in) "Differential Parallel Transmit Data Input.", P3 TXDIN0- (in) "Differential Parallel Transmit Data Input.", P4 TXDIN0+ (in) "Differential Parallel Transmit Data Input.", P5 TXDIN2- (in) "Differential Parallel Transmit Data Input.", P6 TXDIN2+ (in) "Differential Parallel Transmit Data Input.", P7 TXDIN4- (in) "Differential Parallel Transmit Data Input.", P8 TXDIN4+ (in) "Differential Parallel Transmit Data Input.", P9 TXDIN6- (in) "Differential Parallel Transmit Data Input.", P10 TXDIN6+ (in) "Differential Parallel Transmit Data Input.", P11 TXDIN8- (in) "Differential Parallel Transmit Data Input.", P12 TXDIN8+ (in) "Differential Parallel Transmit Data Input.", P13 TXDIN10- (in) "Differential Parallel Transmit Data Input.", P14 TXDIN10+ (in) "Differential Parallel Transmit Data Input."
part C pins: A2 RXCLK1+ (out) "Differential Receiver Clock Output 1.", A3 RXCLK1- (out) "Differential Receiver Clock Output 1.", B2 RXCLK2+ (out) "Differential Receiver Clock Output 2.", B3 RXCLK2- (out) "Differential Receiver Clock Output 2.", C3 LOSLVL (in) "LOS Threshold Level.", C4 SLICELVL (in) "Slicing Level Adjustment", C5 VREF (out) "Voltage Reference.", C8 ~{RXCLK2DSBL} (in) "RXCLK2 Disable.", C9 ~{RXSQLCH} (in) "Receiver Data Squelch.", C10 RXAMPMON (out) "Receiver Amplitude Monitor.", C11 RXREXT (in) "Receiver External Bias Resistor.", C12 ~{RXCLK2DIV} (in) "RXCLK2 Clock Divider Select.", D4 PHASEADJ (in) "Sampling Phase Adjust", D12 RXMSBSEL (in) "Receive Data Bus Bit Order Select.", E3 ~{LTR} (in) "Lock-to-Reference.", E12 SLICEMODE (in) "Slice Level Adjustment Mode", F3 ~{RXLOL} (out) "Receiver Loss-of-Lock.", F4 ~{RXCLK1DSBL} (in) "RXCLK1 Disable.", F12 ~{DLBK} (in) "Diagnostic Loopback.", G1 TXCLKOUT+ (out) "High-Speed Transmit Clock Output.", G3 ~{LOS} (out) "Loss-of-Signal.", G4 ~{RESET} (in) "Device Reset.", G12 MODE16 (in) "MUX/DEMUX Mode", G14 REFCLK+ (in) "Differential Reference Clock.", H1 TXCLKOUT- (out) "High-Speed Transmit Clock Output.", H4 REFRATE (in) "Reference Clock Rate Select.", H12 ~{LLBK} (in) "Line Loopback.", H14 REFCLK- (in) "Differential Reference Clock.", J12 ~{LPTM} (in) "Loop Timed Operation.", K3 ~{FIFOERR} (out) "FIFO Error.", K12 TXCLKDSBL (in) "High-Speed Transmit Clock Disable.", L3 TXREXT (in) "Transmitter External Bias Resistor.", L12 REFSEL (in) "Reference Clock Selection.", M5 ~{TXLOL} (out) "Transmit CMU Loss-of-Lock.", M6 ~{FIFORST} (in) "FIFO RESET.", M7 BWSEL0 (in) "Transmit DSPLL Bandwidth Select", M9 TXMSBSEL (in) "Transmit Data Bus Bit Order Select.", M10 BWSEL1 (in) "Transmit DSPLL Bandwidth Select", M12 ~{TXSQLCH} (in) "Transmit Data Squelch.", N1 TXCLK16IN- (in) "Differential Transmit Data Clock Input.", N2 TXCLK16IN+ (in) "Differential Transmit Data Clock Input.", P1 TXCLK16OUT- (out) "Divided Down Transmit Output Clock.", P2 TXCLK16OUT+ (out) "Divided Down Transmit Output Clock."
part D pins: E5 VDD (power) "Supply Voltage.", E6 VDD (power) "Supply Voltage.", E7 VDD (power) "Supply Voltage.", E8 VDD (power) "Supply Voltage.", E9 VDD (power) "Supply Voltage.", E10 VDD (power) "Supply Voltage.", F5 VDD (power) "Supply Voltage.", F6 VDD (power) "Supply Voltage.", F7 VDD (power) "Supply Voltage.", F8 VDD (power) "Supply Voltage.", F9 VDD (power) "Supply Voltage.", F10 VDD (power) "Supply Voltage.", G5 VDD (power) "Supply Voltage.", G6 VDD (power) "Supply Voltage.", G7 VDD (power) "Supply Voltage.", G8 VDD (power) "Supply Voltage.", G9 VDD (power) "Supply Voltage.", G10 VDD (power) "Supply Voltage.", H3 VDDIO (power) "LVTTL I/O Supply Voltage.", H5 VDD (power) "Supply Voltage.", H6 VDD (power) "Supply Voltage.", H7 VDD (power) "Supply Voltage.", H8 VDD (power) "Supply Voltage.", H9 VDD (power) "Supply Voltage.", H10 VDD (power) "Supply Voltage.", J5 VDD (power) "Supply Voltage.", J6 VDD (power) "Supply Voltage.", J7 VDD (power) "Supply Voltage.", J8 VDD (power) "Supply Voltage.", J9 VDD (power) "Supply Voltage.", J10 VDD (power) "Supply Voltage.", K5 VDD (power) "Supply Voltage.", K6 VDD (power) "Supply Voltage.", K7 VDD (power) "Supply Voltage.", K8 VDD (power) "Supply Voltage.", K9 VDD (power) "Supply Voltage.", K10 VDD (power) "Supply Voltage."
part E pins: B1 GND (power) "Supply Ground.", C1 GND (power) "Supply Ground.", C2 GND (power) "Supply Ground.", C6 RSVD_GND (power) "Reserved Tie to Ground.", C7 RSVD_GND (power) "Reserved Tie to Ground.", D2 GND (power) "Supply Ground.", D3 RSVD_GND (power) "Reserved Tie to Ground.", D5 GND (power) "Supply Ground.", D6 GND (power) "Supply Ground.", D7 GND (power) "Supply Ground.", D8 GND (power) "Supply Ground.", D9 GND (power) "Supply Ground.", D10 GND (power) "Supply Ground.", D11 GND (power) "Supply Ground.", E2 GND (power) "Supply Ground.", E4 GND (power) "Supply Ground.", E11 GND (power) "Supply Ground.", F1 GND (power) "Supply Ground.", F2 GND (power) "Supply Ground.", F11 GND (power) "Supply Ground.", G2 GND (power) "Supply Ground.", G11 GND (power) "Supply Ground.", H2 GND (power) "Supply Ground.", H11 GND (power) "Supply Ground.", J1 GND (power) "Supply Ground.", J2 GND (power) "Supply Ground.", J3 GND (power) "Supply Ground.", J4 GND (power) "Supply Ground.", J11 GND (power) "Supply Ground.", K2 GND (power) "Supply Ground.", K4 RSVD_GND (power) "Reserved Tie to Ground.", K11 GND (power) "Supply Ground.", L2 GND (power) "Supply Ground.", L4 RSVD_GND (power) "Reserved Tie to Ground.", L5 GND (power) "Supply Ground.", L6 GND (power) "Supply Ground.", L7 GND (power) "Supply Ground.", L8 GND (power) "Supply Ground.", L9 GND (power) "Supply Ground.", L10 GND (power) "Supply Ground.", L11 GND (power) "Supply Ground.", M1 GND (power) "Supply Ground.", M2 GND (power) "Supply Ground.", M3 GND (power) "Supply Ground.", M4 GND (power) "Supply Ground.", M8 RSVD_GND (power) "Reserved Tie to Ground.", M11 RSVD_GND (power) "Reserved Tie to Ground."

## Si5100-H-BL
designator U?
SiPHY(R) OC-48 / STM-16 SONET / SDH Transceiver, 1.8 V, -20 to 85 degC, 195-pin BGA; Manufacturer: Silicon Labs; PartNumber: Si5100-H-BL; Sub-Family: CDR/PHYs; DatasheetVersion: Rev. 1.5; PackageReference: PBGA-195; PackageDescription: 195-Ball Plastic Ball Grid Array, Body 15 x 15 mm, Pitch 1 mm; Supplier 1: Digi-Key; Supplier Part Number 1: SI5100-H-BL-ND; Supplier 2: Mouser; Supplier Part Number 2: 634-SI5100-H-BL; Mounting Technology: Surface Mount; Code_JEDEC: MO-192; Code_IPC: J-STD-020C; ComponentLink1Description: Manufacturer URL; ComponentLink1URL: http://www.silabs.com/; ComponentLink2Description: Datasheet; ComponentLink2URL: http://www.silabs.com/Support Documents/TechnicalDocs/si5100.pdf; ComponentLink3Description: Package Specification; ComponentLink3URL: http://www.silabs.com/Support Documents/TechnicalDocs/si5100.pdf
footprint SLAB-PBGA-195 (BGA, 195-Balls, Body 15x15mm, Pitch 1mm)
part A pins: A4 RXDOUT0+ (out) "Differential Parallel Receive Data Output.", A5 RXDOUT0- (out) "Differential Parallel Receive Data Output.", A6 RXDOUT2+ (out) "Differential Parallel Receive Data Output.", A7 RXDOUT2- (out) "Differential Parallel Receive Data Output.", A8 RXDOUT4+ (out) "Differential Parallel Receive Data Output.", A9 RXDOUT4- (out) "Differential Parallel Receive Data Output.", A10 RXDOUT6+ (out) "Differential Parallel Receive Data Output.", A11 RXDOUT6- (out) "Differential Parallel Receive Data Output.", A12 RXDOUT8+ (out) "Differential Parallel Receive Data Output.", A13 RXDOUT8- (out) "Differential Parallel Receive Data Output.", A14 RXDOUT10+ (out) "Differential Parallel Receive Data Output.", B4 RXDOUT1+ (out) "Differential Parallel Receive Data Output.", B5 RXDOUT1- (out) "Differential Parallel Receive Data Output.", B6 RXDOUT3+ (out) "Differential Parallel Receive Data Output.", B7 RXDOUT3- (out) "Differential Parallel Receive Data Output.", B8 RXDOUT5+ (out) "Differential Parallel Receive Data Output.", B9 RXDOUT5- (out) "Differential Parallel Receive Data Output.", B10 RXDOUT7+ (out) "Differential Parallel Receive Data Output.", B11 RXDOUT7- (out) "Differential Parallel Receive Data Output.", B12 RXDOUT9+ (out) "Differential Parallel Receive Data Output.", B13 RXDOUT9- (out) "Differential Parallel Receive Data Output.", B14 RXDOUT10- (out) "Differential Parallel Receive Data Output.", C13 RXDOUT11+ (out) "Differential Parallel Receive Data Output.", C14 RXDOUT12+ (out) "Differential Parallel Receive Data Output.", D1 RXDIN+ (in) "Differential Receive Data Input.", D13 RXDOUT11- (out) "Differential Parallel Receive Data Output.", D14 RXDOUT12- (out) "Differential Parallel Receive Data Output.", E1 RXDIN- (in) "Differential Receive Data Input.", E13 RXDOUT13+ (out) "Differential Parallel Receive Data Output.", E14 RXDOUT14+ (out) "Differential Parallel Receive Data Output.", F13 RXDOUT13- (out) "Differential Parallel Receive Data Output.", F14 RXDOUT14- (out) "Differential Parallel Receive Data Output.", G13 RXDOUT15+ (out) "Differential Parallel Receive Data Output.", H13 RXDOUT15- (out) "Differential Parallel Receive Data Output."
part B pins: J13 TXDIN15+ (in) "Differential Parallel Transmit Data Input.", J14 TXDIN14+ (in) "Differential Parallel Transmit Data Input.", K1 TXDOUT+ (out) "Differential High-Speed Transmit Data Output.", K13 TXDIN15- (in) "Differential Parallel Transmit Data Input.", K14 TXDIN14- (in) "Differential Parallel Transmit Data Input.", L1 TXDOUT- (out) "Differential High-Speed Transmit Data Output.", L13 TXDIN13+ (in) "Differential Parallel Transmit Data Input.", L14 TXDIN12+ (in) "Differential Parallel Transmit Data Input.", M13 TXDIN13- (in) "Differential Parallel Transmit Data Input.", M14 TXDIN12- (in) "Differential Parallel Transmit Data Input.", N3 TXDIN1- (in) "Differential Parallel Transmit Data Input.", N4 TXDIN1+ (in) "Differential Parallel Transmit Data Input.", N5 TXDIN3- (in) "Differential Parallel Transmit Data Input.", N6 TXDIN3+ (in) "Differential Parallel Transmit Data Input.", N7 TXDIN5- (in) "Differential Parallel Transmit Data Input.", N8 TXDIN5+ (in) "Differential Parallel Transmit Data Input.", N9 TXDIN7- (in) "Differential Parallel Transmit Data Input.", N10 TXDIN7+ (in) "Differential Parallel Transmit Data Input.", N11 TXDIN9- (in) "Differential Parallel Transmit Data Input.", N12 TXDIN9+ (in) "Differential Parallel Transmit Data Input.", N13 TXDIN11- (in) "Differential Parallel Transmit Data Input.", N14 TXDIN11+ (in) "Differential Parallel Transmit Data Input.", P3 TXDIN0- (in) "Differential Parallel Transmit Data Input.", P4 TXDIN0+ (in) "Differential Parallel Transmit Data Input.", P5 TXDIN2- (in) "Differential Parallel Transmit Data Input.", P6 TXDIN2+ (in) "Differential Parallel Transmit Data Input.", P7 TXDIN4- (in) "Differential Parallel Transmit Data Input.", P8 TXDIN4+ (in) "Differential Parallel Transmit Data Input.", P9 TXDIN6- (in) "Differential Parallel Transmit Data Input.", P10 TXDIN6+ (in) "Differential Parallel Transmit Data Input.", P11 TXDIN8- (in) "Differential Parallel Transmit Data Input.", P12 TXDIN8+ (in) "Differential Parallel Transmit Data Input.", P13 TXDIN10- (in) "Differential Parallel Transmit Data Input.", P14 TXDIN10+ (in) "Differential Parallel Transmit Data Input."
part C pins: A2 RXCLK1+ (out) "Differential Receiver Clock Output 1.", A3 RXCLK1- (out) "Differential Receiver Clock Output 1.", B2 RXCLK2+ (out) "Differential Receiver Clock Output 2.", B3 RXCLK2- (out) "Differential Receiver Clock Output 2.", C3 LOSLVL (in) "LOS Threshold Level.", C4 SLICELVL (in) "Slicing Level Adjustment", C5 VREF (out) "Voltage Reference.", C8 ~{RXCLK2DSBL} (in) "RXCLK2 Disable.", C9 ~{RXSQLCH} (in) "Receiver Data Squelch.", C10 RXAMPMON (out) "Receiver Amplitude Monitor.", C11 RXREXT (in) "Receiver External Bias Resistor.", C12 ~{RXCLK2DIV} (in) "RXCLK2 Clock Divider Select.", D4 PHASEADJ (in) "Sampling Phase Adjust", D12 RXMSBSEL (in) "Receive Data Bus Bit Order Select.", E3 ~{LTR} (in) "Lock-to-Reference.", E12 SLICEMODE (in) "Slice Level Adjustment Mode", F3 ~{RXLOL} (out) "Receiver Loss-of-Lock.", F4 ~{RXCLK1DSBL} (in) "RXCLK1 Disable.", F12 ~{DLBK} (in) "Diagnostic Loopback.", G1 TXCLKOUT+ (out) "High-Speed Transmit Clock Output.", G3 ~{LOS} (out) "Loss-of-Signal.", G4 ~{RESET} (in) "Device Reset.", G12 MODE16 (in) "MUX/DEMUX Mode", G14 REFCLK+ (in) "Differential Reference Clock.", H1 TXCLKOUT- (out) "High-Speed Transmit Clock Output.", H4 REFRATE (in) "Reference Clock Rate Select.", H12 ~{LLBK} (in) "Line Loopback.", H14 REFCLK- (in) "Differential Reference Clock.", J12 ~{LPTM} (in) "Loop Timed Operation.", K3 ~{FIFOERR} (out) "FIFO Error.", K12 TXCLKDSBL (in) "High-Speed Transmit Clock Disable.", L3 TXREXT (in) "Transmitter External Bias Resistor.", L12 REFSEL (in) "Reference Clock Selection.", M5 ~{TXLOL} (out) "Transmit CMU Loss-of-Lock.", M6 ~{FIFORST} (in) "FIFO RESET.", M7 BWSEL0 (in) "Transmit DSPLL Bandwidth Select", M9 TXMSBSEL (in) "Transmit Data Bus Bit Order Select.", M10 BWSEL1 (in) "Transmit DSPLL Bandwidth Select", M12 ~{TXSQLCH} (in) "Transmit Data Squelch.", N1 TXCLK16IN- (in) "Differential Transmit Data Clock Input.", N2 TXCLK16IN+ (in) "Differential Transmit Data Clock Input.", P1 TXCLK16OUT- (out) "Divided Down Transmit Output Clock.", P2 TXCLK16OUT+ (out) "Divided Down Transmit Output Clock."
part D pins: E5 VDD (power) "Supply Voltage.", E6 VDD (power) "Supply Voltage.", E7 VDD (power) "Supply Voltage.", E8 VDD (power) "Supply Voltage.", E9 VDD (power) "Supply Voltage.", E10 VDD (power) "Supply Voltage.", F5 VDD (power) "Supply Voltage.", F6 VDD (power) "Supply Voltage.", F7 VDD (power) "Supply Voltage.", F8 VDD (power) "Supply Voltage.", F9 VDD (power) "Supply Voltage.", F10 VDD (power) "Supply Voltage.", G5 VDD (power) "Supply Voltage.", G6 VDD (power) "Supply Voltage.", G7 VDD (power) "Supply Voltage.", G8 VDD (power) "Supply Voltage.", G9 VDD (power) "Supply Voltage.", G10 VDD (power) "Supply Voltage.", H3 VDDIO (power) "LVTTL I/O Supply Voltage.", H5 VDD (power) "Supply Voltage.", H6 VDD (power) "Supply Voltage.", H7 VDD (power) "Supply Voltage.", H8 VDD (power) "Supply Voltage.", H9 VDD (power) "Supply Voltage.", H10 VDD (power) "Supply Voltage.", J5 VDD (power) "Supply Voltage.", J6 VDD (power) "Supply Voltage.", J7 VDD (power) "Supply Voltage.", J8 VDD (power) "Supply Voltage.", J9 VDD (power) "Supply Voltage.", J10 VDD (power) "Supply Voltage.", K5 VDD (power) "Supply Voltage.", K6 VDD (power) "Supply Voltage.", K7 VDD (power) "Supply Voltage.", K8 VDD (power) "Supply Voltage.", K9 VDD (power) "Supply Voltage.", K10 VDD (power) "Supply Voltage."
part E pins: B1 GND (power) "Supply Ground.", C1 GND (power) "Supply Ground.", C2 GND (power) "Supply Ground.", C6 RSVD_GND (power) "Reserved Tie to Ground.", C7 RSVD_GND (power) "Reserved Tie to Ground.", D2 GND (power) "Supply Ground.", D3 RSVD_GND (power) "Reserved Tie to Ground.", D5 GND (power) "Supply Ground.", D6 GND (power) "Supply Ground.", D7 GND (power) "Supply Ground.", D8 GND (power) "Supply Ground.", D9 GND (power) "Supply Ground.", D10 GND (power) "Supply Ground.", D11 GND (power) "Supply Ground.", E2 GND (power) "Supply Ground.", E4 GND (power) "Supply Ground.", E11 GND (power) "Supply Ground.", F1 GND (power) "Supply Ground.", F2 GND (power) "Supply Ground.", F11 GND (power) "Supply Ground.", G2 GND (power) "Supply Ground.", G11 GND (power) "Supply Ground.", H2 GND (power) "Supply Ground.", H11 GND (power) "Supply Ground.", J1 GND (power) "Supply Ground.", J2 GND (power) "Supply Ground.", J3 GND (power) "Supply Ground.", J4 GND (power) "Supply Ground.", J11 GND (power) "Supply Ground.", K2 GND (power) "Supply Ground.", K4 RSVD_GND (power) "Reserved Tie to Ground.", K11 GND (power) "Supply Ground.", L2 GND (power) "Supply Ground.", L4 RSVD_GND (power) "Reserved Tie to Ground.", L5 GND (power) "Supply Ground.", L6 GND (power) "Supply Ground.", L7 GND (power) "Supply Ground.", L8 GND (power) "Supply Ground.", L9 GND (power) "Supply Ground.", L10 GND (power) "Supply Ground.", L11 GND (power) "Supply Ground.", M1 GND (power) "Supply Ground.", M2 GND (power) "Supply Ground.", M3 GND (power) "Supply Ground.", M4 GND (power) "Supply Ground.", M8 RSVD_GND (power) "Reserved Tie to Ground.", M11 RSVD_GND (power) "Reserved Tie to Ground."

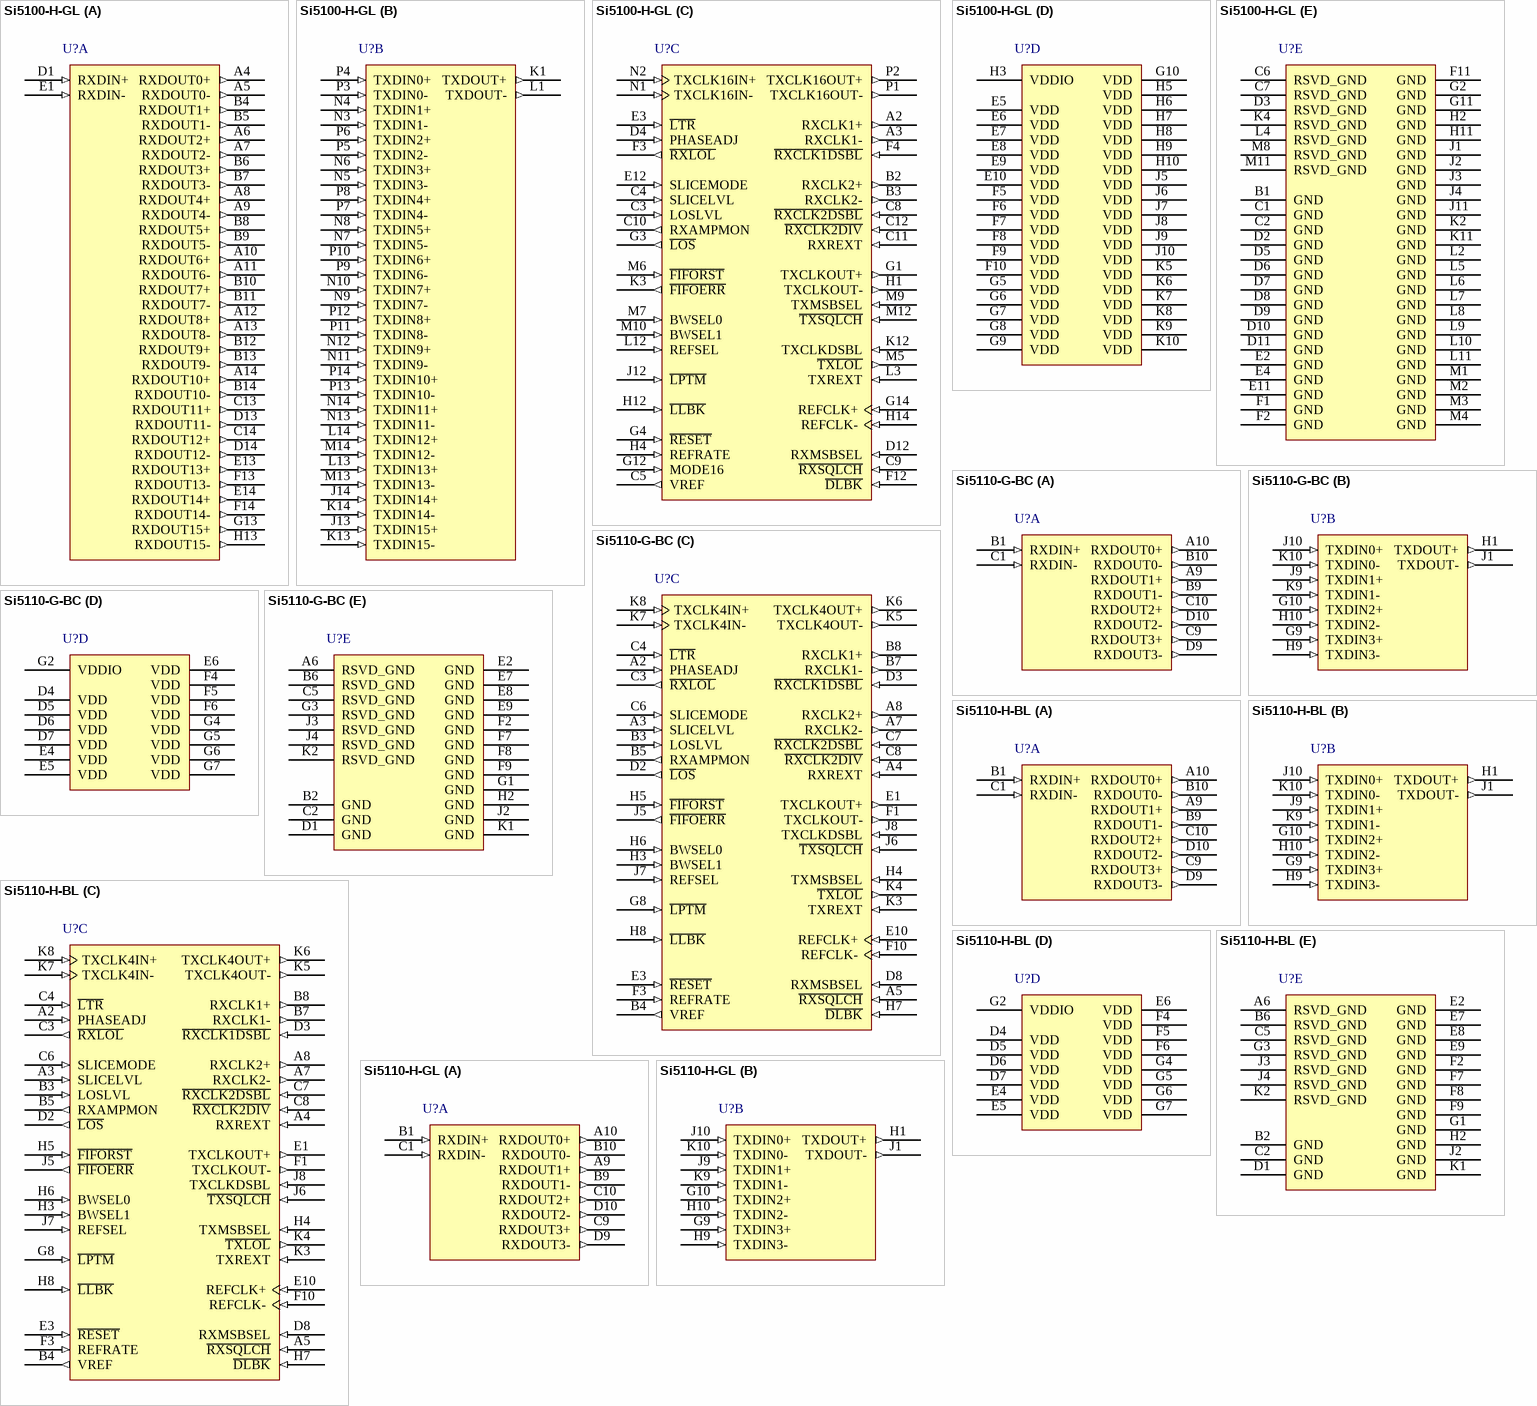
[diagram p10: symbols Si5100-H-GL to Si5110-H-GL]